# EAGLE library part SN754410_NE_16 (library SN754410)
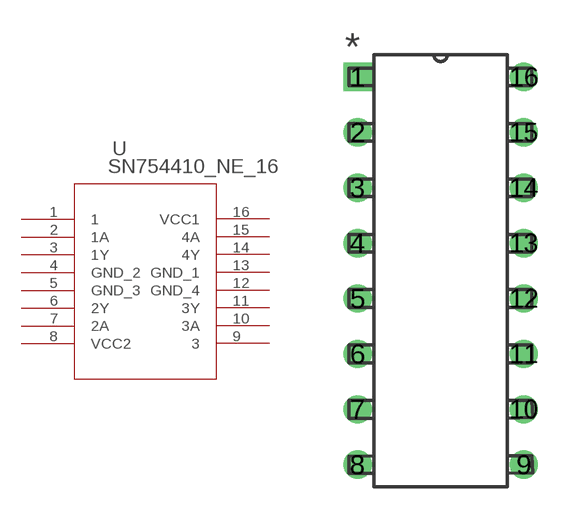
[diagram p0: symbol with the pads of NE16; footprint NE16]

Designator prefix U

## SN754410_NE_16 (DATASHEETURL: http://www.ti.com/lit/gpn/SN754410; DESCRIPTION: Quadruple Half-H Drivers; FAMILY_NAME: PERIPHERAL DRIVER AND ACTUATOR; GENERIC_PART_NUMBER: SN754410; INDUSTRY_STD_PKG_TYPE: PDIP; MANUFACTURER: Texas Instruments; PACKAGE_DESIGNATOR: NE; PIN_COUNT: 16)  [NE16]
1  1  pas
2  1A  in
3  1Y  out
4  GND_2  pas
5  GND_3  pas
6  2Y  out
7  2A  in
8  VCC2  pwr
9  3  pas
10  3A  in
11  3Y  out
12  GND_4  pas
13  GND_1  pas
14  4Y  out
15  4A  in
16  VCC1  pwr

## Footprint NE16 (pad centres in mm)
drill 0.787 pad 1.295 square: 1 -7.62,17.78
drill 0.787 pad 1.295: 2 -7.62,15.24; 3 -7.62,12.7; 4 -7.62,10.16; 5 -7.62,7.62; 6 -7.62,5.08; 7 -7.62,2.54; 8 -7.62,0; 9 0,0; 10 0,2.54; 11 0,5.08; 12 0,7.62; 13 0,10.16; 14 0,12.7; 15 0,15.24; 16 0,17.78